# EAGLE library part MAGJAC_PEO_RJ45 (library personal)
RJ45 Magjack connector with Power Over Ethernet ( POE ) Digikey part: 507-1431-ND
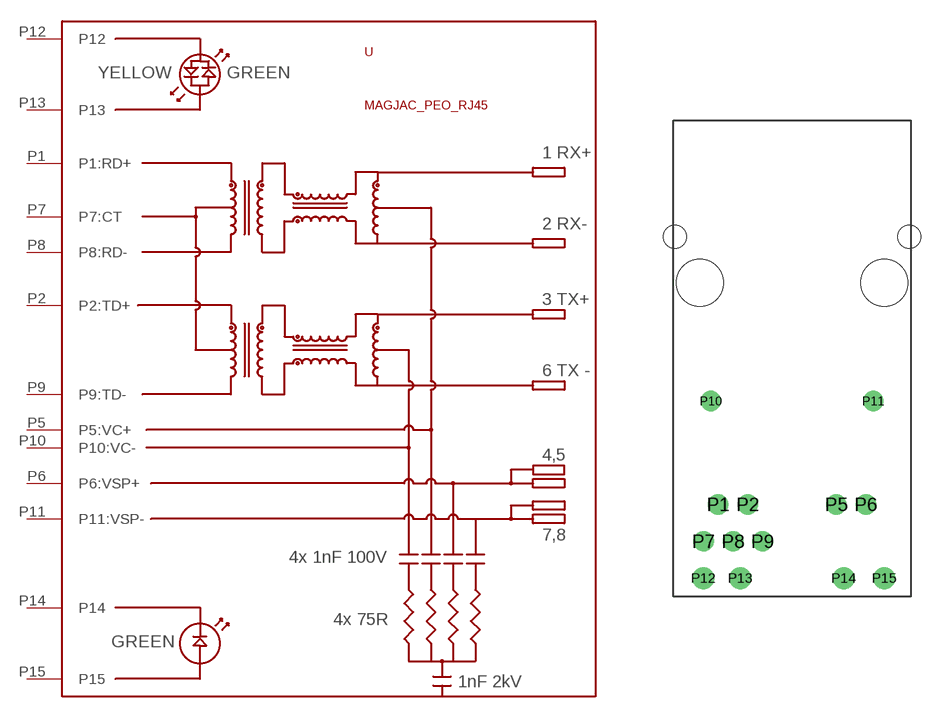
[diagram p5: symbol with the pads of MAGJACK_PEO_RJ45; footprint MAGJACK_PEO_RJ45]

Designator prefix -

## MAGJAC_PEO_RJ45  [MAGJACK_PEO_RJ45]
P1  P1:RD+
P2  P2:TD+
P5  P5:VC+
P6  P6:VSP+
P7  P7:CT
P8  P8:RD-
P9  P9:TD-
P10  P10:VC-
P11  P11:VSP-
P12  P12
P13  P13
P14  P14
P15  P15

## Footprint MAGJACK_PEO_RJ45 (pad centres in mm)
drill 0.889 round: P1 -5.08,-8.89; P2 -3.048,-8.89; P5 3.048,-8.89; P6 5.08,-8.89; P7 -6.096,-11.43; P8 -4.064,-11.43; P9 -2.032,-11.43; P10 -5.588,-1.778; P11 5.588,-1.778
drill 1.016 round: P12 -6.096,-13.97; P13 -3.556,-13.97; P14 3.556,-13.97; P15 6.35,-13.97
hole 3.251 at -6.35,6.35
hole 3.251 at 6.35,6.35
hole 1.575 at -8.065,9.525
hole 1.575 at 8.065,9.525